# Altium footprint library ITR9608.PcbLib: 1 footprints
Each footprint in its own frame and in the unit in brackets; x right, y up, seen from the top. Pads: shape width x height; smd on the part's side, far side on the other; paste and mask are expansions set on the pad; w line width, h text height; cw(c..) or ccw(c..) is an arc to the next point about the centre after c.
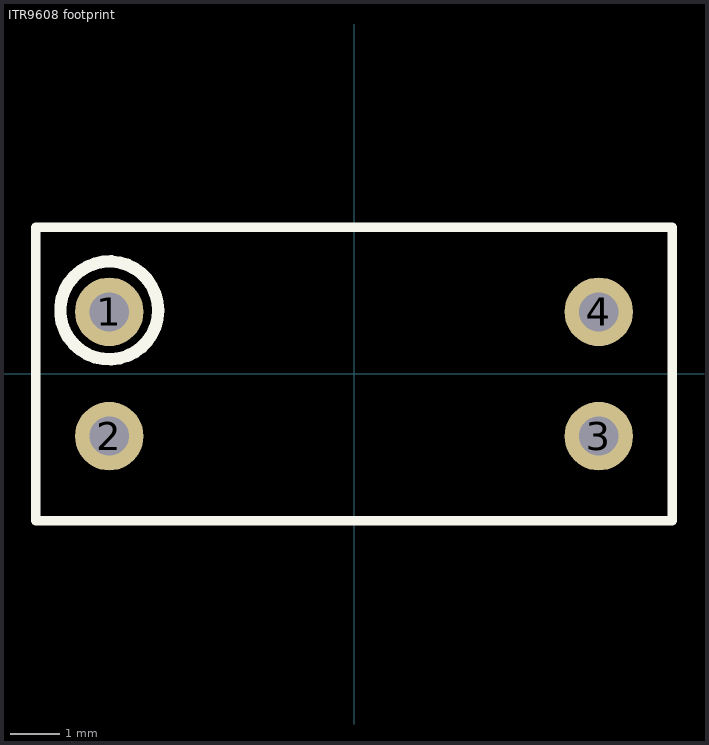
[diagram p0: the footprint, top view; thin cyan lines are the x and y axes]

## ITR9608 footprint [mm]
pads (4):
  round 1.4 hole 0.8 paste+0 mask+0.05: 1(-5,1.27) 2(-5,-1.27) 3(5,-1.27) 4(5,1.27)
Top Overlay:
  circle w0.254: c-5,1.3 r1
  lines w0.2: -6.5,-3 -6.5,3 6.5,3 6.5,-3 -6.5,-3